# Altium footprint library 2019-11-30_21-18-30.PcbLib: 3 footprints
Each footprint in its own frame and in the unit in brackets; x right, y up, seen from the top. Pads: shape width x height; smd on the part's side, far side on the other; paste and mask are expansions set on the pad; w line width, h text height; cw(c..) or ccw(c..) is an arc to the next point about the centre after c.
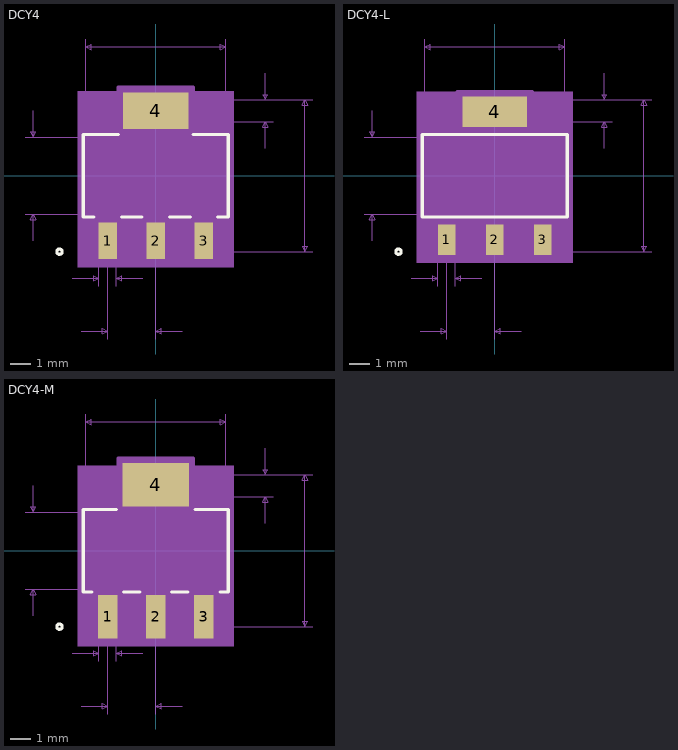
[diagram p0: the footprints below, top view; thin cyan lines are the x and y axes]

## DCY4 [mil]
pads (4):
  rect 35x69.5 smd: 1(-91,-122.75) 2(0,-122.75) 3(91,-122.75)
  rect 124x69.5 smd: 4(0,122.75)
Top Overlay:
  circle w6: c-182,-143.5 r5
  lines w6: -116.96,-78 -137,-78 -137,78 -70.46,78 ; -65.04,-78 -25.96,-78 ; 25.96,-78 65.04,-78 ; 70.46,78 137,78 137,-78 116.96,-78
Mechanical 5:
  region: -147,159.5 147,159.5 147,-172.5 -147,-172.5
Mechanical 7:
  lines w1: -247,-73 0,-73 ; -247,73 0,73 ; -232,-123 -232,-73 ; -232,123 -232,73 ; -157.5,-193.5 -107.5,-193.5 ; -141,-293.5 -91,-293.5 ; -132,73 -132,258.5 ; -107.5,-208.5 -107.5,-143.5 ; -91,-308.5 -91,-143.5 ; -74.5,-208.5 -74.5,-143.5 ; -24.5,-193.5 -74.5,-193.5 ; 0,-308.5 0,-143.5 297,-143.5 ; 0,102 222,102 ; 50,-293.5 0,-293.5 ; 132,73 132,258.5 ; 207,52 207,102 ; 207,193.5 207,143.5 ; 222,143.5 0,143.5 297,143.5 ; -232,-73 -227,-83 -237,-83 -232,-73 ; -232,73 -227,83 -237,83 -232,73 ; -132,243.5 -122,238.5 -122,248.5 -132,243.5 ; -132,243.5 132,243.5 ; -107.5,-193.5 -117.5,-198.5 -117.5,-188.5 -107.5,-193.5 ; -91,-293.5 -101,-298.5 -101,-288.5 -91,-293.5 ; -74.5,-193.5 -64.5,-198.5 -64.5,-188.5 -74.5,-193.5 ; 0,-293.5 10,-298.5 10,-288.5 0,-293.5 ; 132,243.5 122,238.5 122,248.5 132,243.5 ; 207,102 212,92 202,92 207,102 ; 207,143.5 212,153.5 202,153.5 207,143.5 ; 282,-143.5 287,-133.5 277,-133.5 282,-143.5 ; 282,-143.5 282,143.5 ; 282,143.5 287,133.5 277,133.5 282,143.5
  text "0.146in/3.708mm" at -439.5,-12.5 h25
  text "0.264in/6.706mm" at -93.75,263.5 h25
  text "0.033in/0.838mm" at -184.75,-238.5 h25
  text "0.091in/2.311mm" at -139.25,-338.5 h25
  text "0.03in/0.762mm" at 227,110.25 h25
  text "0.287in/7.29mm" at 302,-12.5 h25
  text "Alt 2 Padstyle: OX90Y60D30P" at -337.5,-557.5 h50
  text "Alt 1 Padstyle: OX60Y90D30P" at -337.5,-507.5 h50
  text "Default Pin Padstyle: RX35Y69p5D0T" at -425,-457.5 h50
Mechanical 13:
  circle w0: c-122,-63 r5
  lines w1: -132,-73 -132,73 132,73 132,-73 -132,-73 ; -107.5,-143.5 -74.5,-143.5 -74.5,-73 -107.5,-73 -107.5,-143.5 ; -61,73 -61,143.5 61,143.5 61,73 -61,73 ; -16.5,-143.5 16.5,-143.5 16.5,-73 -16.5,-73 -16.5,-143.5 ; 74.5,-143.5 107.5,-143.5 107.5,-73 74.5,-73 74.5,-143.5
Mechanical 15:
  region: -142,-83 -142,83 -71,83 -71,167.5 71,167.5 71,83 142,83 142,-83 117.5,-83 117.5,-167.5 -117.5,-167.5 -117.5,-83
  lines w6: -142,-83 -117.5,-83 -117.5,-167.5 117.5,-167.5 117.5,-83 142,-83 142,83 71,83 71,167.5 -71,167.5 -71,83 -142,83 -142,-83
3D body: height 10, standoff 0, extent 0,0 10,10

## DCY4-L [mil]
pads (4):
  rect 33x57.5 smd paste+0 mask+0: 1(-91,-120.75) 2(0,-120.75) 3(91,-120.75)
  rect 122x57.5 smd paste+0 mask+0: 4(0,120.75)
Top Overlay:
  circle w6: c-182,-143.5 r5
  lines w6: -137,-78 -137,78 137,78 137,-78 -137,-78
Mechanical 5:
  region: -147,158.5 147,158.5 147,-164.5 -147,-164.5
Mechanical 7:
  lines w1: -247,-73 0,-73 ; -247,73 0,73 ; -232,-123 -232,-73 ; -232,123 -232,73 ; -157.5,-193.5 -107.5,-193.5 ; -141,-293.5 -91,-293.5 ; -132,73 -132,258.5 ; -107.5,-208.5 -107.5,-143.5 ; -91,-308.5 -91,-143.5 ; -74.5,-208.5 -74.5,-143.5 ; -24.5,-193.5 -74.5,-193.5 ; 0,-308.5 0,-143.5 297,-143.5 ; 0,102 222,102 ; 50,-293.5 0,-293.5 ; 132,73 132,258.5 ; 207,52 207,102 ; 207,193.5 207,143.5 ; 222,143.5 0,143.5 297,143.5 ; -232,-73 -227,-83 -237,-83 -232,-73 ; -232,73 -227,83 -237,83 -232,73 ; -132,243.5 -122,238.5 -122,248.5 -132,243.5 ; -132,243.5 132,243.5 ; -107.5,-193.5 -117.5,-198.5 -117.5,-188.5 -107.5,-193.5 ; -91,-293.5 -101,-298.5 -101,-288.5 -91,-293.5 ; -74.5,-193.5 -64.5,-198.5 -64.5,-188.5 -74.5,-193.5 ; 0,-293.5 10,-298.5 10,-288.5 0,-293.5 ; 132,243.5 122,238.5 122,248.5 132,243.5 ; 207,102 212,92 202,92 207,102 ; 207,143.5 212,153.5 202,153.5 207,143.5 ; 282,-143.5 287,-133.5 277,-133.5 282,-143.5 ; 282,-143.5 282,143.5 ; 282,143.5 287,133.5 277,133.5 282,143.5
  text "0.146in/3.708mm" at -439.5,-12.5 h25
  text "0.264in/6.706mm" at -93.75,263.5 h25
  text "0.033in/0.838mm" at -184.75,-238.5 h25
  text "0.091in/2.311mm" at -139.25,-338.5 h25
  text "0.03in/0.762mm" at 227,110.25 h25
  text "0.287in/7.29mm" at 302,-12.5 h25
  text "Alt 2 Padstyle: OX90Y60D30P" at -337.5,-549.5 h50
  text "Alt 1 Padstyle: OX60Y90D30P" at -337.5,-499.5 h50
  text "Default Pin Padstyle: RX33Y57p5D0T" at -425,-449.5 h50
Mechanical 13:
  circle w0: c-122,-63 r5
  lines w1: -132,-73 -132,73 132,73 132,-73 -132,-73 ; -107.5,-143.5 -74.5,-143.5 -74.5,-73 -107.5,-73 -107.5,-143.5 ; -61,73 -61,143.5 61,143.5 61,73 -61,73 ; -16.5,-143.5 16.5,-143.5 16.5,-73 -16.5,-73 -16.5,-143.5 ; 74.5,-143.5 107.5,-143.5 107.5,-73 74.5,-73 74.5,-143.5
Mechanical 15:
  region: -142,-83 -142,83 -71,83 -71,159.5 71,159.5 71,83 142,83 142,-83 117.5,-83 117.5,-159.5 -117.5,-159.5 -117.5,-83
  lines w6: -142,-83 -117.5,-83 -117.5,-159.5 117.5,-159.5 117.5,-83 142,-83 142,83 71,83 71,159.5 -71,159.5 -71,83 -142,83 -142,-83
3D body: height 10, standoff 0, extent 0,0 10,10

## DCY4-M [mil]
pads (4):
  rect 37x81.5 smd paste+0 mask+0: 1(-91,-124.75) 2(0,-124.75) 3(91,-124.75)
  rect 126x81.5 smd paste+0 mask+0: 4(0,124.75)
Top Overlay:
  circle w6: c-182,-143.5 r5
  lines w6: -121.15,-78 -137,-78 -137,78 -74.65,78 ; -60.85,-78 -30.15,-78 ; 30.15,-78 60.85,-78 ; 74.65,78 137,78 137,-78 121.15,-78
Mechanical 5:
  region: -147,160.5 147,160.5 147,-180.5 -147,-180.5
Mechanical 7:
  lines w1: -247,-73 0,-73 ; -247,73 0,73 ; -232,-123 -232,-73 ; -232,123 -232,73 ; -157.5,-193.5 -107.5,-193.5 ; -141,-293.5 -91,-293.5 ; -132,73 -132,258.5 ; -107.5,-208.5 -107.5,-143.5 ; -91,-308.5 -91,-143.5 ; -74.5,-208.5 -74.5,-143.5 ; -24.5,-193.5 -74.5,-193.5 ; 0,-308.5 0,-143.5 297,-143.5 ; 0,102 222,102 ; 50,-293.5 0,-293.5 ; 132,73 132,258.5 ; 207,52 207,102 ; 207,193.5 207,143.5 ; 222,143.5 0,143.5 297,143.5 ; -232,-73 -227,-83 -237,-83 -232,-73 ; -232,73 -227,83 -237,83 -232,73 ; -132,243.5 -122,238.5 -122,248.5 -132,243.5 ; -132,243.5 132,243.5 ; -107.5,-193.5 -117.5,-198.5 -117.5,-188.5 -107.5,-193.5 ; -91,-293.5 -101,-298.5 -101,-288.5 -91,-293.5 ; -74.5,-193.5 -64.5,-198.5 -64.5,-188.5 -74.5,-193.5 ; 0,-293.5 10,-298.5 10,-288.5 0,-293.5 ; 132,243.5 122,238.5 122,248.5 132,243.5 ; 207,102 212,92 202,92 207,102 ; 207,143.5 212,153.5 202,153.5 207,143.5 ; 282,-143.5 287,-133.5 277,-133.5 282,-143.5 ; 282,-143.5 282,143.5 ; 282,143.5 287,133.5 277,133.5 282,143.5
  text "0.146in/3.708mm" at -439.5,-12.5 h25
  text "0.264in/6.706mm" at -93.75,263.5 h25
  text "0.033in/0.838mm" at -184.75,-238.5 h25
  text "0.091in/2.311mm" at -139.25,-338.5 h25
  text "0.03in/0.762mm" at 227,110.25 h25
  text "0.287in/7.29mm" at 302,-12.5 h25
  text "Alt 2 Padstyle: OX90Y60D30P" at -337.5,-565.5 h50
  text "Alt 1 Padstyle: OX60Y90D30P" at -337.5,-515.5 h50
  text "Default Pin Padstyle: RX37Y81p5D0T" at -425,-465.5 h50
Mechanical 13:
  circle w0: c-122,-63 r5
  lines w1: -132,-73 -132,73 132,73 132,-73 -132,-73 ; -107.5,-143.5 -74.5,-143.5 -74.5,-73 -107.5,-73 -107.5,-143.5 ; -61,73 -61,143.5 61,143.5 61,73 -61,73 ; -16.5,-143.5 16.5,-143.5 16.5,-73 -16.5,-73 -16.5,-143.5 ; 74.5,-143.5 107.5,-143.5 107.5,-73 74.5,-73 74.5,-143.5
Mechanical 15:
  region: -142,-83 -142,83 -71,83 -71,175.5 71,175.5 71,83 142,83 142,-83 117.5,-83 117.5,-175.5 -117.5,-175.5 -117.5,-83
  lines w6: -142,-83 -117.5,-83 -117.5,-175.5 117.5,-175.5 117.5,-83 142,-83 142,83 71,83 71,175.5 -71,175.5 -71,83 -142,83 -142,-83
3D body: height 10, standoff 0, extent 0,0 10,10